# EAGLE library part SN74CB3T3253 (library custom)
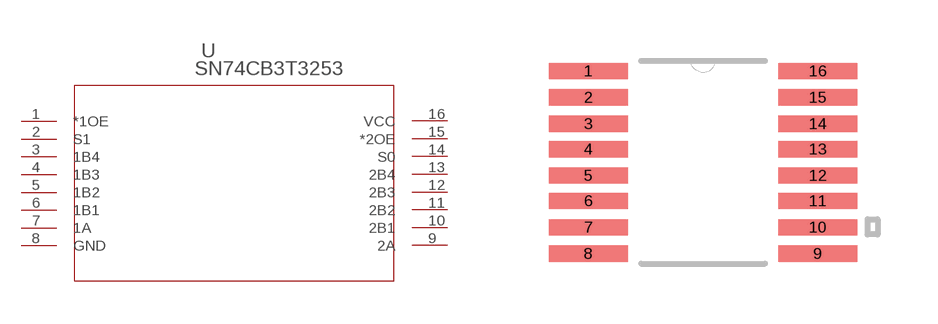
[diagram p21: symbol with the pads of PW16-M; footprint PW16-M]

Designator prefix -

## SN74CB3T3253  [PW16-M]
1  *1OE  in
2  S1  in
3  1B4
4  1B3
5  1B2
6  1B1
7  1A
8  GND  pwr
9  2A
10  2B1
11  2B2
12  2B3
13  2B4
14  S0  in
15  *2OE  in
16  VCC  pwr

## Footprint PW16-M (pad centres in mm)
smd 1.981 x 0.406: 1 -2.87,2.286; 2 -2.87,1.626; 3 -2.87,0.965; 4 -2.87,0.33; 5 -2.87,-0.33; 6 -2.87,-0.965; 7 -2.87,-1.626; 8 -2.87,-2.286; 9 2.87,-2.286; 10 2.87,-1.626; 11 2.87,-0.965; 12 2.87,-0.33; 13 2.87,0.33; 14 2.87,0.965; 15 2.87,1.626; 16 2.87,2.286